# Altium integrated library Connector.IntLib: 30 symbols
Pins are listed as number, name and electrical type; pins without a type are passive.

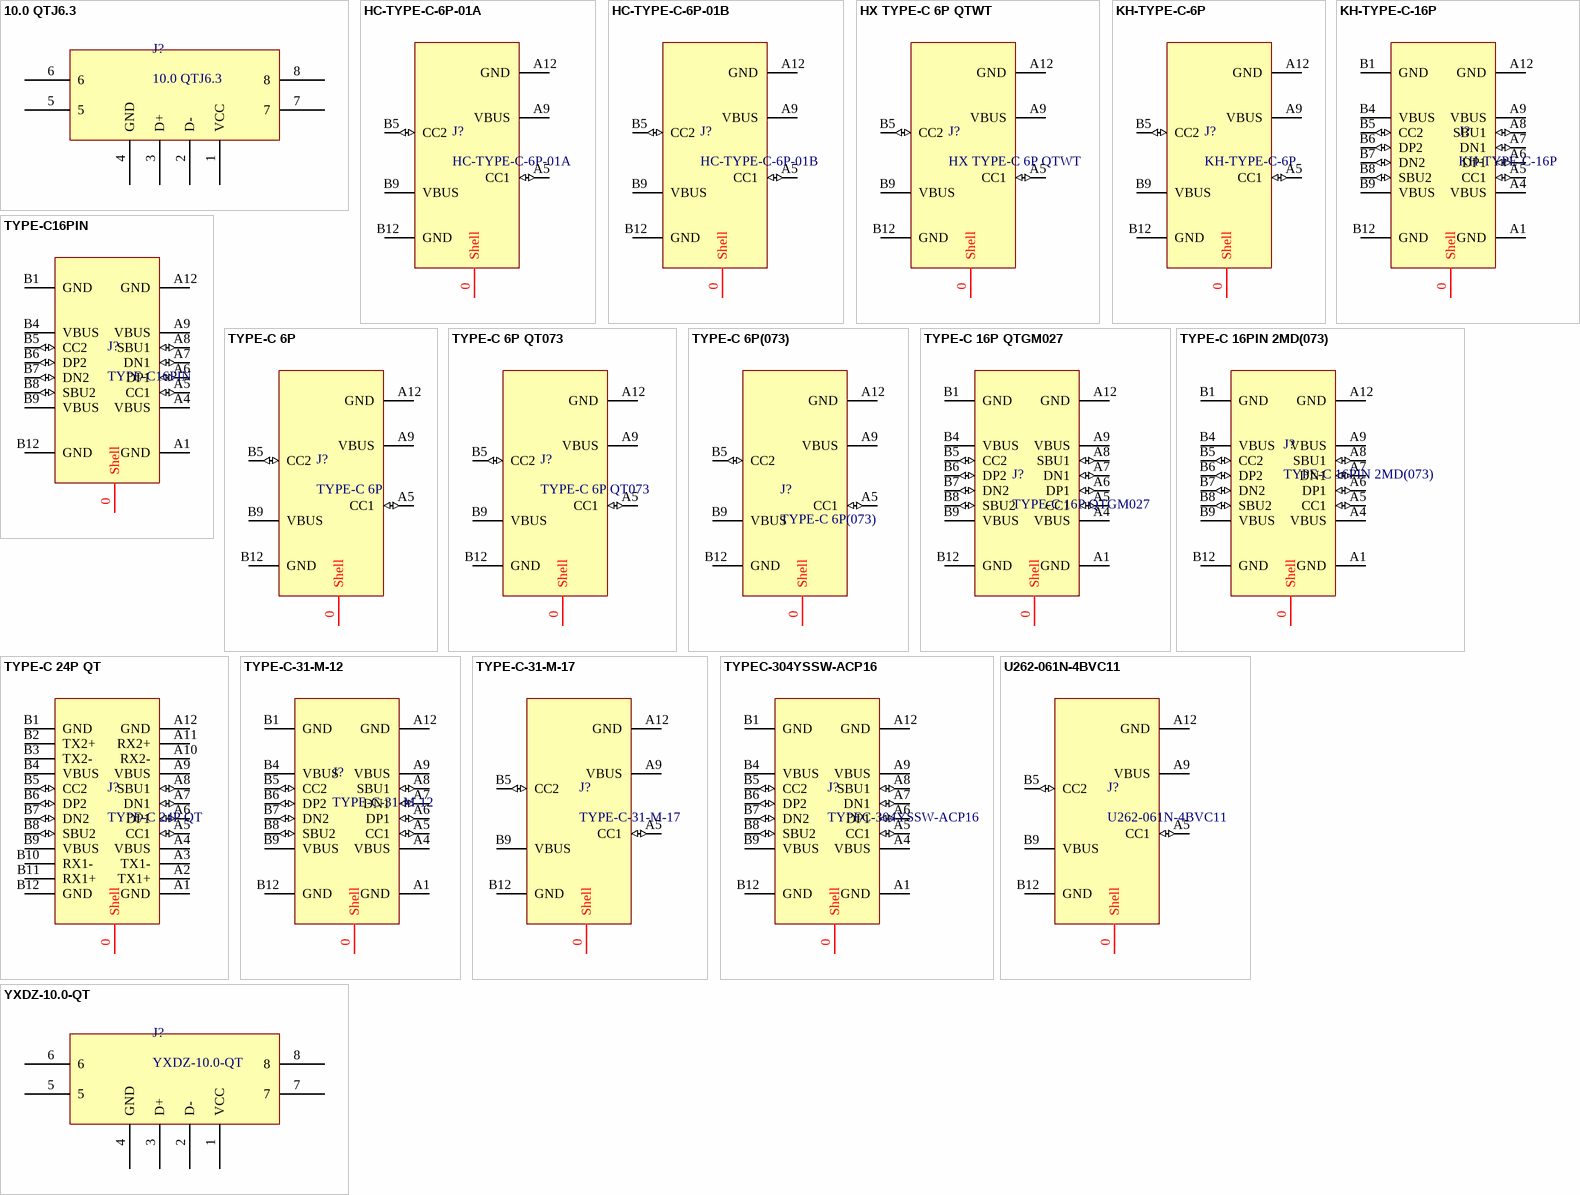
[diagram p0: symbols 10.0 QTJ6.3 to YXDZ-10.0-QT]

## 10.0 QTJ6.3
designator J?
SHOU HAN(首韩) Type-A 母 卧贴 不锈钢外壳 4PIN; 封装: SMD; 类别: USB连接器; 协议标准: USB 2.0; 触点数量: 4P; 端口数量: 1; 额定电压: 30V; 额定电流: 1.5A; 制造商: SHOU HAN(首韩); 子类别: Type-A; 公母: 母; 安装方式: 卧贴
footprint SHOUHAN-TYPE-A-4P-QTJ (SHOU HAN(首韩) Type-A 母 卧贴 4PIN 推荐焊盘)
pins: 1 VCC, 2 D-, 3 D+, 4 GND, 5, 6, 7, 8

## HC-TYPE-C-6P-01A
designator J?
HCTL(华灿天禄) Type-C 母 卧贴 不锈钢外壳 6PIN; 封装: SMD; 类别: USB连接器; 触点数量: 6P; 端口数量: 1; 额定电压: 20V; 额定电流: 3.5A; 制造商: HCTL(华灿天禄); 子类别: Type-C; 协议标准: -; 公母: 母; 安装方式: 卧贴
footprint HCTL-TYPE-C-6P-01A (HCTL(华灿天禄) Type-C 母 卧贴 锈钢外壳 6PIN 推荐焊盘)
pins: 0 Shell (power), A5 CC1 (io), A9 VBUS, A12 GND (power), B5 CC2 (io), B9 VBUS, B12 GND (power)

## HC-TYPE-C-6P-01B
designator J?
HCTL(华灿天禄) Type-C 母 卧贴 不锈钢外壳 6PIN; 封装: SMD; 类别: USB连接器; 触点数量: 6P; 端口数量: 1; 额定电压: 20V; 额定电流: 3A; 制造商: HCTL(华灿天禄); 子类别: Type-C; 协议标准: -; 公母: 母; 安装方式: 卧贴
footprint HCTL-TYPE-C-6P-01B (HCTL(华灿天禄) Type-C 母 卧贴 锈钢外壳 6PIN 推荐焊盘)
pins: 0 Shell (power), A5 CC1 (io), A9 VBUS, A12 GND (power), B5 CC2 (io), B9 VBUS, B12 GND (power)

## HX TYPE-C 6P QTWT
designator J?
hanxia(韩下) 机械寿命：5000次 6P充电母座 不锈钢壳 四脚贴片; 封装: SMD; 类别: USB连接器; 协议标准: USB 3.1; 公母: 母; 安装方式: 卧贴; 端口数量: 1; 额定电压: 20V; 额定电流: 3A; 制造商: hanxia(韩下); 子类别: Type-C; 触点数量: 6P
footprint hanxia-HX TYPE-C 6P QTWT (hanxia(韩下) Type-C 母 机械寿命：5000次 6P充电母座 不锈钢壳 四脚贴片)
pins: 0 Shell (power), A5 CC1 (io), A9 VBUS, A12 GND (power), B5 CC2 (io), B9 VBUS, B12 GND (power)

## KH-TYPE-C-6P
designator J?
kinghelm(金航标) Type-C 母 卧贴 不锈钢外壳 6PIN; 封装: SMD; 类别: USB连接器; 触点数量: 6P; 端口数量: 1; 额定电压: 5V; 额定电流: 2A; 制造商: kinghelm(金航标); 子类别: Type-C; 协议标准: -; 公母: 母; 安装方式: 卧贴
footprint kinghelm-TYPE-C-6P (kinghelm(金航标) Type-C 母 卧贴 锈钢外壳 6PIN 推荐焊盘)
pins: 0 Shell (power), A5 CC1 (io), A9 VBUS, A12 GND (power), B5 CC2 (io), B9 VBUS, B12 GND (power)

## KH-TYPE-C-16P
designator J?
kinghelm(金航标) Type-C 母 卧贴 带定位柱 不锈钢外壳 16PIN; 封装: SMD; 类别: USB连接器; 触点数量: 16P; 端口数量: 1; 额定电压: 30V; 额定电流: 3A; 制造商: kinghelm(金航标); 子类别: Type-C; 协议标准: -; 公母: 母; 安装方式: 卧贴
footprint kinghelm-TYPE-C 16PIN (kinghelm(金航标) Type-C 母 卧贴 带定位柱 16PIN 推荐焊盘)
pins: 0 Shell (power), A1 GND, A4 VBUS, A5 CC1 (io), A6 DP1 (io), A7 DN1 (io), A8 SBU1 (io), A9 VBUS, A12 GND (power), B1 GND (power), B4 VBUS, B5 CC2 (io), B6 DP2 (io), B7 DN2 (io), B8 SBU2 (io), B9 VBUS, B12 GND (power)

## TYPE-C16PIN
designator J?
SHOU HAN(首韩) Type-C 母 卧贴 带定位柱 不锈钢外壳 16PIN; 封装: SMD; 类别: USB连接器; 协议标准: USB 3.1; 触点数量: 16P; 端口数量: 1; 额定电压: 20V; 额定电流: 3A; 制造商: SHOU HAN(首韩); 子类别: Type-C; 公母: 母; 安装方式: 卧贴
footprint SHOUHAN-TYPE-C 16PIN (SHOU HAN(首韩) Type-C 母 卧贴 带定位柱 不锈钢外壳 16PIN 推荐焊盘)
pins: 0 Shell (power), A1 GND, A4 VBUS, A5 CC1 (io), A6 DP1 (io), A7 DN1 (io), A8 SBU1 (io), A9 VBUS, A12 GND (power), B1 GND (power), B4 VBUS, B5 CC2 (io), B6 DP2 (io), B7 DN2 (io), B8 SBU2 (io), B9 VBUS, B12 GND (power)

## TYPE-C 6P
designator J?
SHOU HAN(首韩) Type-C 母 卧贴 不锈钢外壳 6PIN; 封装: SMD; 类别: USB连接器; 协议标准: USB 3.1; 端口数量: 1; 额定电压: 5V; 额定电流: 3A; 制造商: SHOU HAN(首韩); 子类别: Type-C; 公母: 母; 安装方式: 卧贴; 触点数量: 6P
footprint SHOUHAN-TYPE-C 6PIN (SHOU HAN(首韩) Type-C 母 卧贴 锈钢外壳 6PIN 推荐焊盘)
pins: 0 Shell (power), A5 CC1 (io), A9 VBUS, A12 GND (power), B5 CC2 (io), B9 VBUS, B12 GND (power)

## TYPE-C 6P QT073
designator J?
SHOU HAN(首韩) Type-C 母 卧贴 不锈钢外壳 6PIN 四角全贴; 封装: SMD; 类别: USB连接器; 协议标准: USB 3.1; 端口数量: 1; 额定电压: 5V; 额定电流: 3A; 制造商: SHOU HAN(首韩); 子类别: Type-C; 公母: 母; 安装方式: 卧贴; 触点数量: 6P
footprint SHOUHAN-TYPE-C 6PIN-073-QT (SHOU HAN(首韩) Type-C 母 卧贴 锈钢外壳 6PIN 推荐焊盘 四角全贴)
pins: 0 Shell (power), A5 CC1 (io), A9 VBUS, A12 GND (power), B5 CC2 (io), B9 VBUS, B12 GND (power)

## TYPE-C 6P(073)
designator J?
SHOU HAN(首韩) Type-C 母 卧贴 不锈钢外壳 6PIN; 封装: SMD; 类别: USB连接器; 协议标准: USB 3.1; 端口数量: 1; 额定电压: 5V; 额定电流: 3A; 制造商: SHOU HAN(首韩); 子类别: Type-C; 公母: 母; 安装方式: 卧贴; 触点数量: 6P
footprint SHOUHAN-TYPE-C 6PIN-073 (SHOU HAN(首韩) Type-C 母 卧贴 锈钢外壳 6PIN 推荐焊盘)
pins: 0 Shell (power), A5 CC1 (io), A9 VBUS, A12 GND (power), B5 CC2 (io), B9 VBUS, B12 GND (power)

## TYPE-C 16P QTGM027
designator J?
SHOU HAN(首韩) Type-C 母 卧贴 不锈钢外壳 16PIN 四角全贴; 封装: SMD; 类别: USB连接器; 协议标准: USB 3.1; 端口数量: 1; 额定电压: 20V; 额定电流: 3A; 制造商: SHOU HAN(首韩); 子类别: Type-C; 公母: 母; 安装方式: 卧贴; 触点数量: 16P
footprint SHOUHAN-TYPE-C 16PIN-QT (SHOU HAN(首韩) 16PIN TYPEC 四角贴板 带定位柱 推荐焊盘)
pins: 0 Shell (power), A1 GND, A4 VBUS, A5 CC1 (io), A6 DP1 (io), A7 DN1 (io), A8 SBU1 (io), A9 VBUS, A12 GND (power), B1 GND (power), B4 VBUS, B5 CC2 (io), B6 DP2 (io), B7 DN2 (io), B8 SBU2 (io), B9 VBUS, B12 GND (power)

## TYPE-C 16PIN 2MD(073)
designator J?
SHOU HAN(首韩) Type-C 母 卧贴 带定位柱 不锈钢外壳 16PIN; 封装: SMD; 类别: USB连接器; 协议标准: USB 3.1; 触点数量: 16P; 端口数量: 1; 额定电压: 5V; 额定电流: 3A; 制造商: SHOU HAN(首韩); 子类别: Type-C; 公母: 母; 安装方式: 卧贴
footprint SHOUHAN-TYPE-C 16PIN (SHOU HAN(首韩) Type-C 母 卧贴 带定位柱 不锈钢外壳 16PIN 推荐焊盘)
pins: 0 Shell (power), A1 GND, A4 VBUS, A5 CC1 (io), A6 DP1 (io), A7 DN1 (io), A8 SBU1 (io), A9 VBUS, A12 GND (power), B1 GND (power), B4 VBUS, B5 CC2 (io), B6 DP2 (io), B7 DN2 (io), B8 SBU2 (io), B9 VBUS, B12 GND (power)

## TYPE-C 24P QT
designator J?
SHOU HAN(首韩) Type-C 母 卧贴 带定位柱 不锈钢外壳 24PIN; 封装: SMD; 类别: USB连接器; 协议标准: USB 3.1; 端口数量: 1; 额定电流: 3A; 制造商: SHOU HAN(首韩); 子类别: Type-C; 公母: 母; 安装方式: 卧贴; 触点数量: 24P; 额定电压: -
footprint SHOUHAN-TYPE-C 24P QT (SHOU HAN(首韩) Type-C 母 卧贴 带定位柱 不锈钢外壳 24PIN 推荐焊盘 / 焊盘整体向右偏移0.062，未给出确切偏移尺寸)
pins: 0 Shell (power), A1 GND, A2 TX1+, A3 TX1-, A4 VBUS, A5 CC1 (io), A6 DP1 (io), A7 DN1 (io), A8 SBU1 (io), A9 VBUS, A10 RX2-, A11 RX2+, A12 GND (power), B1 GND (power), B2 TX2+, B3 TX2-, B4 VBUS, B5 CC2 (io), B6 DP2 (io), B7 DN2 (io), B8 SBU2 (io), B9 VBUS, B10 RX1-, B11 RX1+, B12 GND (power)

## TYPE-C-31-M-12
designator J?
韩国韩荣 Type-C 母 / USB Type-C母座 16PIN; 封装: SMD; 类别: USB连接器; 安装方式: 卧贴; 触点数量: 16P; 端口数量: 1; 额定电压: 20V; 额定电流: 5A; 制造商: 韩国韩荣; 子类别: Type-C; 协议标准: -; 公母: 母
footprint TYPE-C-31-M-12 (韩国韩荣 Type-C 母 卧贴 带定位柱 不锈钢外壳 16PIN 推荐焊盘)
pins: 0 Shell (power), A1 GND, A4 VBUS, A5 CC1 (io), A6 DP1 (io), A7 DN1 (io), A8 SBU1 (io), A9 VBUS, A12 GND (power), B1 GND (power), B4 VBUS, B5 CC2 (io), B6 DP2 (io), B7 DN2 (io), B8 SBU2 (io), B9 VBUS, B12 GND (power)

## TYPE-C-31-M-17
designator J?
韩国韩荣 Type-C 母 卧贴 不锈钢外壳 6PIN; 封装: SMD; 类别: USB连接器; 协议标准: USB 3.1; 触点数量: 6P; 端口数量: 1; 额定电压: 20V; 额定电流: 5A; 制造商: 韩国韩荣; 子类别: Type-C; 公母: 母; 安装方式: 卧贴
footprint TYPE-C-31-M-17 (韩国韩荣 Type-C 母 卧贴 锈钢外壳 6PIN 推荐焊盘)
pins: 0 Shell (power), A5 CC1 (io), A9 VBUS, A12 GND (power), B5 CC2 (io), B9 VBUS, B12 GND (power)

## TYPEC-304YSSW-ACP16
designator J?
XUNPU(讯普) Type-C 母 卧贴 带定位柱 长7.35 四脚贴板 16PIN; 封装: SMD; 类别: USB连接器; 触点数量: 16P; 端口数量: 1; 额定电压: 20V; 额定电流: 3A; 制造商: XUNPU(讯普); 子类别: Type-C; 公母: 母; 安装方式: 卧贴
footprint XUNPU-TYPE-C 16PIN-QT (XUNPU(讯普) 16PIN TYPEC 四角贴板 带定位柱 推荐焊盘)
pins: 0 Shell (power), A1 GND, A4 VBUS, A5 CC1 (io), A6 DP1 (io), A7 DN1 (io), A8 SBU1 (io), A9 VBUS, A12 GND (power), B1 GND (power), B4 VBUS, B5 CC2 (io), B6 DP2 (io), B7 DN2 (io), B8 SBU2 (io), B9 VBUS, B12 GND (power)

## U262-061N-4BVC11
designator J?
XKB Connection(中国星坤) Type-C 母 卧贴 不锈钢外壳 6PIN; 封装: SMD; 类别: USB连接器; 协议标准: USB 3.1; 触点数量: 6P; 端口数量: 1; 额定电压: 20V; 额定电流: 5A; 制造商: XKB Connection(中国星坤); 子类别: Type-C; 公母: 母; 安装方式: 卧贴
footprint U262-061N-4BVC11 (XKB Connection(中国星坤) Type-C 母 卧贴 锈钢外壳 6PIN 推荐焊盘)
pins: 0 Shell (power), A5 CC1 (io), A9 VBUS, A12 GND (power), B5 CC2 (io), B9 VBUS, B12 GND (power)

## YXDZ-10.0-QT
designator J?
优信电子售卖的 Type-A 母 四角贴片 不锈钢外壳 4PIN 卷边; 制造商: SHOU HAN(首韩); 封装: SMD; 类别: USB连接器; 协议标准: USB 2.0; 安装方式: 卧贴; 触点数量: 4P; 端口数量: 1; 额定电压: 30V; 额定电流: 1.5A; 子类别: Type-A; 公母: 母
footprint YXDZ-TYPE-A-4P-QT (优信电子售卖的 Type-A 母 卧贴 4PIN 推荐焊盘 10.0 四角贴片 卷边)
pins: 1 VCC, 2 D-, 3 D+, 4 GND, 5, 6, 7, 8


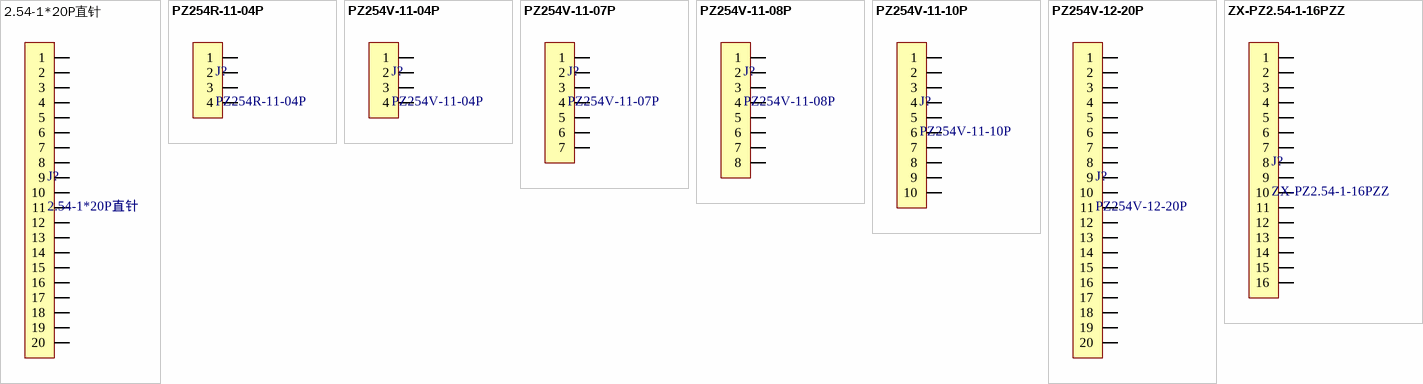
[diagram p1: symbols 2.54-1*20P直针 to ZX-PZ2.54-1-16PZZ]

## 2.54-1*20P直针
designator J?
1x20P 间距:2.54mm 方针 直插; 制造商: BOOMELE(博穆精密); 封装: P=2.54mm; 类别: 排针; 子类别: 2.54mm排针; 间距: 2.54mm; 排数: 1; 总PIN位数: 20; 插针结构: 1x20P; 安装方式: 直插
footprint Header_2.54mm_1x20_TH_1.02mm (2.54间距排针 1x20直插封装 孔径1.02)
pins: 1, 2, 3, 4, 5, 6, 7, 8, 9, 10, 11, 12, 13, 14, 15, 16, 17, 18, 19, 20

## PZ254R-11-04P
designator J?
1x4P 间距:2.54mm 方针 弯插; 制造商: XFCN(兴飞); 封装: P=2.54mm; 类别: 排针; 子类别: 2.54mm排针; 间距: 2.54mm; 排数: 1; 总PIN位数: 4; 插针结构: 1x4P; 安装方式: 弯插
footprint Header_2.54mm_1x4_TH_RA_1.02mm (2.54间距排针 1x4直插封装 孔径1.02)
pins: 1, 2, 3, 4

## PZ254V-11-04P
designator J?
1x4P 间距:2.54mm 方针 直插; 制造商: XFCN(兴飞); 封装: P=2.54mm; 类别: 排针; 子类别: 2.54mm排针; 间距: 2.54mm; 排数: 1; 总PIN位数: 4; 插针结构: 1x4P; 安装方式: 直插
footprint Header_2.54mm_1x4_TH_1.02mm (2.54间距排针 1x4直插封装 孔径1.02)
pins: 1, 2, 3, 4

## PZ254V-11-07P
designator J?
1x7P 间距:2.54mm 方针 直插; 制造商: XFCN(兴飞); 封装: P=2.54mm; 类别: 排针; 子类别: 2.54mm排针; 间距: 2.54mm; 排数: 1; 总PIN位数: 7; 插针结构: 1x7P; 安装方式: 直插
footprint Header_2.54mm_1x7_TH_1.02mm (2.54间距排针 1x7直插封装 孔径1.02)
pins: 1, 2, 3, 4, 5, 6, 7

## PZ254V-11-08P
designator J?
1x8P 间距:2.54mm 方针 直插; 制造商: XFCN(兴飞); 封装: P=2.54mm; 类别: 排针; 子类别: 2.54mm排针; 间距: 2.54mm; 排数: 1; 总PIN位数: 8; 插针结构: 1x8P; 安装方式: 直插
footprint Header_2.54mm_1x8_TH_1.02mm (2.54间距排针 1x8直插封装 孔径1.02)
pins: 1, 2, 3, 4, 5, 6, 7, 8

## PZ254V-11-10P
designator J?
1x10P 间距:2.54mm 方针 直插; 制造商: XFCN(兴飞); 封装: P=2.54mm; 类别: 排针; 子类别: 2.54mm排针; 间距: 2.54mm; 排数: 1; 总PIN位数: 8; 插针结构: 1x10P; 安装方式: 直插
footprint Header_2.54mm_1x10_TH_1.02mm (2.54间距排针 1x10直插封装 孔径1.02)
pins: 1, 2, 3, 4, 5, 6, 7, 8, 9, 10

## PZ254V-12-20P
designator J?
1x20P 间距:2.54mm 方针 直插; 制造商: XFCN(兴飞); 封装: P=2.54mm; 类别: 排针; 子类别: 2.54mm排针; 间距: 2.54mm; 排数: 1; 总PIN位数: 8; 插针结构: 1x20P; 安装方式: 直插
footprint Header_2.54mm_1x20_TH_1.02mm (2.54间距排针 1x20直插封装 孔径1.02)
pins: 1, 2, 3, 4, 5, 6, 7, 8, 9, 10, 11, 12, 13, 14, 15, 16, 17, 18, 19, 20

## ZX-PZ2.54-1-16PZZ
designator J?
1x16P 间距:2.54mm 方针 直插; 制造商: Megastar(兆星); 封装: P=2.54mm; 类别: 排针; 子类别: 2.54mm排针; 间距: 2.54mm; 排数: 1; 总PIN位数: 16; 插针结构: 1x16P; 安装方式: 直插
footprint Header_2.54mm_1x16_TH_1.02mm (2.54间距排针 1x16直插封装 孔径1.02)
pins: 1, 2, 3, 4, 5, 6, 7, 8, 9, 10, 11, 12, 13, 14, 15, 16


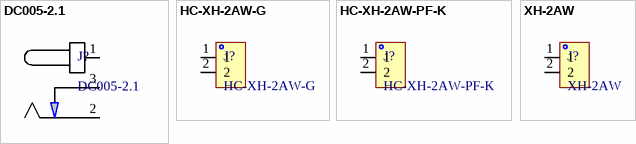
[diagram p2: symbols DC005-2.1 to XH-2AW]

## DC005-2.1
designator J?
优信电子售卖的DC母座，品牌未知 5.5-2.1; 制造商: (优信电子); 子类别: DC电源插座; 安装方式: 弯插; 封装: 插件; 类别: 板对线插座; 触点内径: 2.1; 触点外径: 6.3; 额定电流: 1A; 额定电压: 30V
footprint DC005-YXDZ (淘宝优信电子售卖的DC005插座封装 品牌未知)
pins: 1, 2, 3

## HC-XH-2AW-G
designator J?
制造商: HCTL(华灿天禄); 类别: 板对线插座; 子类别: 2.5mm接头; 封装: P=2.5mm; 插针结构: 1x2P; 安装方式: 弯插; 间距: 2.5mm; 排数: 1; 每排PIN数: 2
footprint HCTL-XH-2AW (HCTL(华灿天禄) 2.5mm版对线插座封装)
pins: 1, 2

## HC-XH-2AW-PF-K
designator J?
制造商: HCTL(华灿天禄); 类别: 板对线插座; 子类别: 2.5mm接头; 封装: P=2.5mm; 插针结构: 1x2P; 安装方式: 弯插; 间距: 2.5mm; 排数: 1; 每排PIN数: 2
footprint HCTL-XH-2AW (HCTL(华灿天禄) 2.5mm版对线插座封装)
pins: 1, 2

## XH-2AW
designator J?
制造商: HCTL(华灿天禄); 类别: 板对线插座; 子类别: 2.5mm接头; 封装: P=2.5mm; 插针结构: 1x2P; 安装方式: 弯插; 间距: 2.5mm; 排数: 1; 每排PIN数: 2
footprint HCTL-XH-2AW (HCTL(华灿天禄) 2.5mm版对线插座封装)
pins: 1, 2